# Altium footprint library WE-KI.PcbLib: 4 footprints
Each footprint in its own frame and in the unit in brackets; x right, y up, seen from the top. Pads: shape width x height; smd on the part's side, far side on the other; paste and mask are expansions set on the pad; w line width, h text height; cw(c..) or ccw(c..) is an arc to the next point about the centre after c.
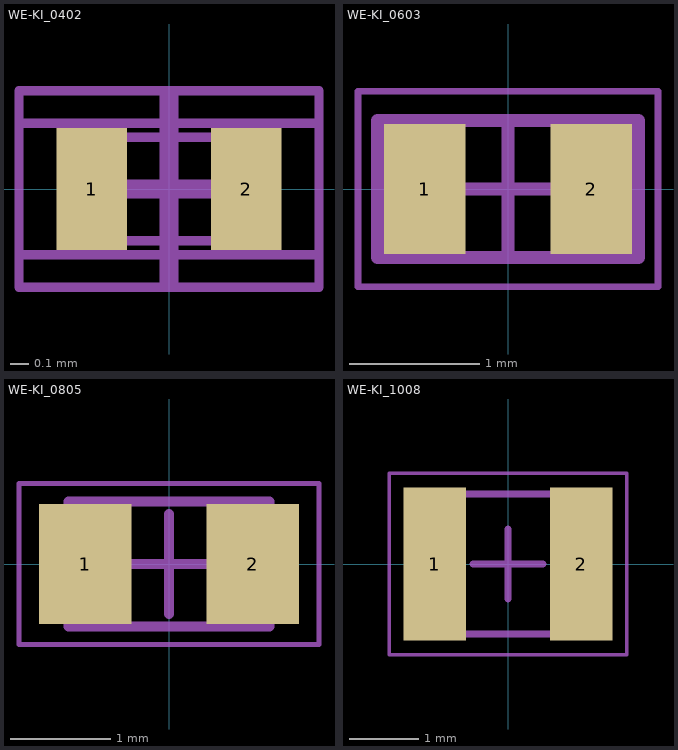
[diagram p0: the footprints below, top view; thin cyan lines are the x and y axes]

## WE-KI_0402 [mm] "SMD Wire Wound Ceramic Inductor, body 1.00x0.55mm"
height 0.6
pads (2):
  rect 0.375x0.65 smd: 1(-0.413,0) 2(0.413,0)
Top Assembly:
  lines w0.05: -0.8,-0.35 -0.8,0.35 0.8,0.35 0.8,-0.35 -0.8,-0.35
Top Designator:
  text ".Designator" at -3.647,-0.357 h1
Top 3D Body:
  lines w0.05: -0.5,-0.275 0.5,-0.275 0.5,0.275 -0.5,0.275 -0.5,-0.275
Top Courtyard:
  lines w0.05: -0.8,-0.525 -0.8,0.525 0.8,0.525 0.8,-0.525 -0.8,-0.525
Top Component Center:
  lines w0.1: -0.5,0 0.5,0 ; 0,-0.5 0,0.5
3D body "STEP-WE-KI-0402A-rev1.stp": height 0.58, standoff 0.01, extent -0.5,-0.275 0.5,0.275

## WE-KI_0603 [mm] "SMD Wire Wound Ceramic Inductor, body 1.60x1.05mm"
height 1.25
pads (2):
  rect 0.625x1 smd: 1(-0.637,0) 2(0.637,0)
Top Assembly:
  lines w0.1: -1,-0.525 1,-0.525 1,0.525 -1,0.525 -1,-0.525
Top Designator:
  text ".Designator" at -3.647,-0.357 h1
Top 3D Body:
  lines w0.1: -0.8,-0.525 -0.8,0.525 0.8,0.525 0.8,-0.525 -0.8,-0.525
Top Courtyard:
  lines w0.05: -1.15,-0.75 1.15,-0.75 1.15,0.75 -1.15,0.75 -1.15,-0.75
Top Component Center:
  lines w0.1: -0.5,0 0.5,0 ; 0,-0.5 0,0.5
3D body "STEP-WE-KI-0603A-rev1.stp": height 0.92, standoff -0.01, extent -0.825,-0.58 0.825,0.58

## WE-KI_0805 [mm] "SMD Wire Wound Ceramic Inductor, body 2.00x1.25mm"
height 1.4
pads (2):
  rect 0.92x1.2 smd: 1(-0.835,0) 2(0.835,0)
Top Assembly:
  lines w0.1: -1,-0.625 -1,0.625 1,0.625 1,-0.625 -1,-0.625
Top Designator:
  text ".Designator" at -3.647,-0.357 h1
Top 3D Body:
  lines w0.1: -1,-0.625 1,-0.625 1,0.625 -1,0.625 -1,-0.625
Top Courtyard:
  lines w0.05: -1.495,-0.8 1.495,-0.8 1.495,0.8 -1.495,0.8 -1.495,-0.8
Top Component Center:
  lines w0.1: -0.5,0 0.5,0 ; 0,-0.5 0,0.5
3D body "STEP-WE-KI-0805A-rev1.stp": height 1.23, standoff -0.01, extent -1,-0.625 1,0.625

## WE-KI_1008 [mm] "SMD Wire Wound Ceramic Inductor, body 2.50x2.00mm"
height 1.8
pads (2):
  rect 0.9x2.2 smd: 1(-1.05,0) 2(1.05,0)
Top Assembly:
  lines w0.1: -1.25,-1 -1.25,1 1.25,1 1.25,-1 -1.25,-1
Top Designator:
  text ".Designator" at -3.647,-0.357 h1
Top 3D Body:
  lines w0.1: -1.25,-1 1.25,-1 1.25,1 -1.25,1 -1.25,-1
Top Courtyard:
  lines w0.05: -1.7,-1.3 -1.7,1.3 1.7,1.3 1.7,-1.3 -1.7,-1.3
Top Component Center:
  lines w0.1: -0.5,0 0.5,0 ; 0,-0.5 0,0.5
3D body "STEP-WE-KI-1008A-rev1.stp": height 1.12, standoff -0.01, extent -1.25,-1.002 1.25,1.003